# Altium footprint library M20-8761242.PcbLib: 1 footprints
Each footprint in its own frame and in the unit in brackets; x right, y up, seen from the top. Pads: shape width x height; smd on the part's side, far side on the other; paste and mask are expansions set on the pad; w line width, h text height; cw(c..) or ccw(c..) is an arc to the next point about the centre after c.
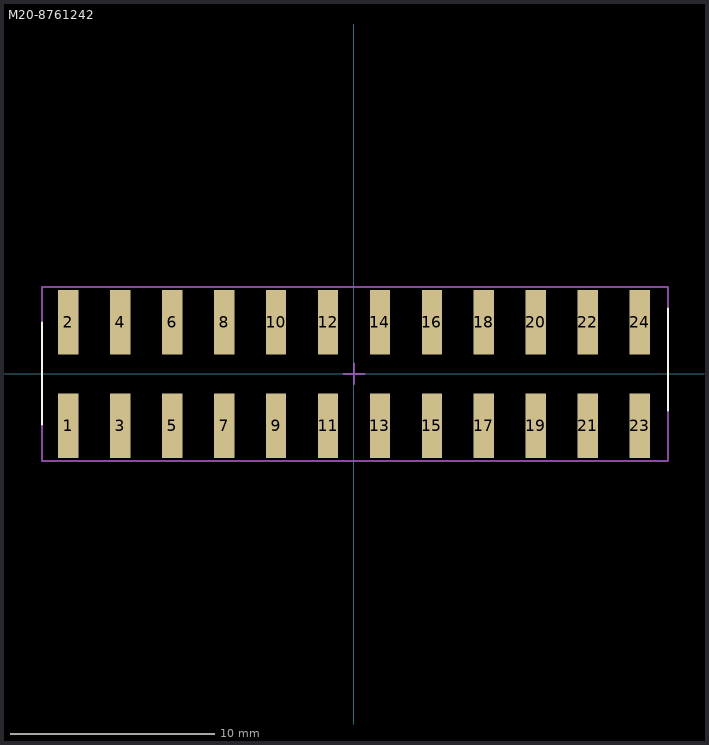
[diagram p0: the footprint, top view; thin cyan lines are the x and y axes]

## M20-8761242 [mm]
pads (24):
  rect 1x3.15 smd: 1(-13.97,-2.525) 2(-13.97,2.525) 3(-11.43,-2.525) 4(-11.43,2.525) 5(-8.89,-2.525) 6(-8.89,2.525) 7(-6.35,-2.525) 8(-6.35,2.525) 9(-3.81,-2.525) 10(-3.81,2.525) 11(-1.27,-2.525) 12(-1.27,2.525) 13(1.27,-2.525) 14(1.27,2.525) 15(3.81,-2.525) 16(3.81,2.525) 17(6.35,-2.525) 18(6.35,2.525) 19(8.89,-2.525) 20(8.89,2.525) 21(11.43,-2.525) 22(11.43,2.525) 23(13.97,-2.525) 24(13.97,2.525)
Top Overlay:
  lines w0.1: -15.24,-2.475 -15.24,2.525 ; 15.336,-1.792 15.336,3.208
Mechanical 11:
  text ".Designator" at -0.25,-0.05 h0.5
Mechanical 15:
  lines w0.1: -0.5,0 0.5,0 ; 0,-0.5 0,0.5 ; -15.24,-4.251 15.336,-4.251 15.336,4.248 -15.24,4.248 -15.24,-4.251
3D body "M20-8761242.stp": height 9.94, standoff 0.01, extent -15.24,-3.6 15.24,3.6